# Altium schematic symbol library SCH - INTERFACE - I2C - ADUM1250.SCHLIB: 2 symbols
Pins are listed as number, name and electrical type; pins without a type are passive.

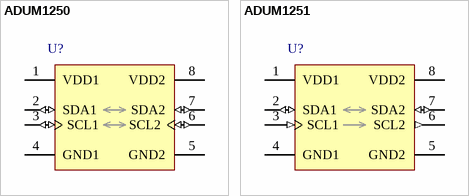
[diagram p0: symbols ADUM1250 to ADUM1251]

## ADUM1250
designator U?
pins: 1 VDD1 (power) "Supply Voltage, 3.0 V to 5.5 V.", 2 SDA1 (io) "Data Input/Output, Side 1.", 3 SCL1 (io) "Clock Input/Output, Side 1.", 4 GND1 (power) "Ground 1. Ground reference for Isolator Side 1.", 5 GND2 (power) "Ground 2. Isolated ground reference for Isolator Side 2.", 6 SCL2 (io) "Clock Input/Output, Side 2.", 7 SDA2 (io) "Data Input/Output, Side 2.", 8 VDD2 (power) "Supply Voltage, 3.0 V to 5.5 V."

## ADUM1251
designator U?
pins: 1 VDD1 (power) "Supply Voltage, 3.0 V to 5.5 V.", 2 SDA1 (io) "Data Input/Output, Side 1.", 3 SCL1 (in) "Clock Input, Side 1.", 4 GND1 (power) "Ground 1. Ground reference for Isolator Side 1.", 5 GND2 (power) "Ground 2. Isolated ground reference for Isolator Side 2.", 6 SCL2 (out) "Clock Output, Side 2.", 7 SDA2 (io) "Data Input/Output, Side 2.", 8 VDD2 (power) "Supply Voltage, 3.0 V to 5.5 V."